# EAGLE library part 10118193-0001LF (library project2)
USB Connectors 5P MICRO USB TYPE B RECEPTACLE W/ PEGS Source: Datasheet <https://cdn.amphenol-icc.com/media/wysiwyg/files/drawing/10118193.pdf>
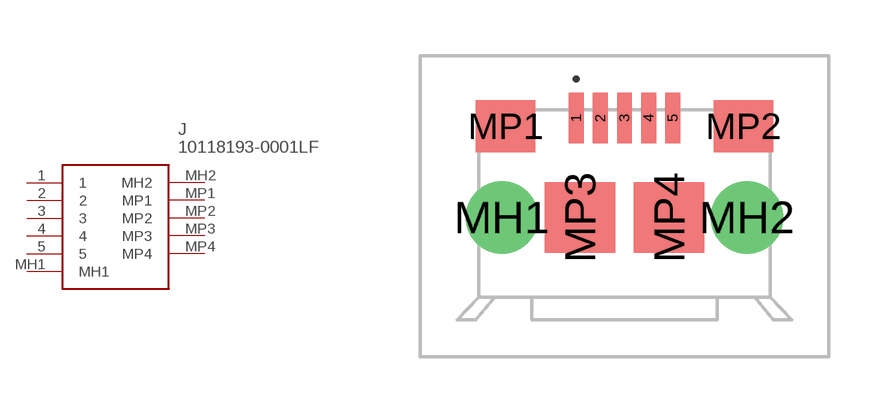
[diagram p1: symbol with the pads of 101181930001LF; footprint 101181930001LF]

Designator prefix J

## 10118193-0001LF (DESCRIPTION: USB Connectors 5P MICRO USB TYPE B RECEPTACLE W/ PEGS; HEIGHT: 3.3mm; MANUFACTURER_NAME: Amphenol Communication Solutions; MANUFACTURER_PART_NUMBER: 10118193-0001LF; MOUSER_PART_NUMBER: 649-10118193-0001LF; MOUSER_PRICE-STOCK: https://www.mouser.co.uk/ProductDetail/Amphenol-FCI/10118193-0001LF?qs=Ywefl8B65e63Nsqd%252B8HZaQ%3D%3D)  [101181930001LF]
1  1
2  2
3  3
4  4
5  5
MH1  MH1
MH2  MH2
MP1  MP1
MP2  MP2
MP3  MP3
MP4  MP4

## Footprint 101181930001LF (pad centres in mm)
10118193-0001LF-1
smd 0.4 x 1.35: 1 -1.3,2.605; 2 -0.65,2.605; 3 0,2.605; 4 0.65,2.605; 5 1.3,2.605
drill 1.3 pad 1.95: MH1 -3.3,-0.07; MH2 3.3,-0.07
smd 1.6 x 1.4: MP1 -3.2,2.38; MP2 3.2,2.38
smd 1.9 x 1.9: MP3 -1.2,-0.07; MP4 1.2,-0.07